# EAGLE library part LM4871 (library robotter_ic)
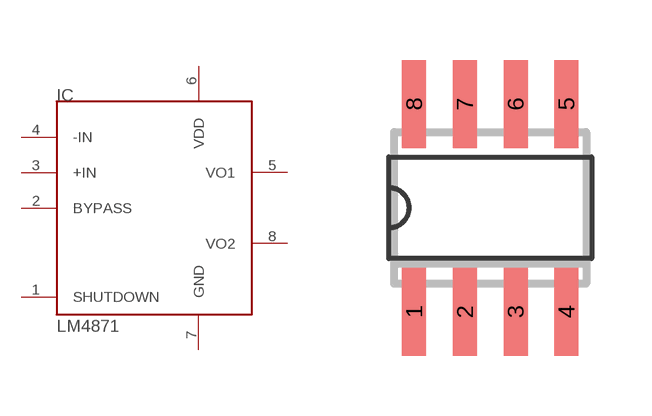
[diagram p12: symbol with the pads of SO8; footprint SO8]

Designator prefix IC

## LM4871M (MOUSER: 926-LM4871MX/NOPB; RS: 533-8271)  [SO8]
1  SHUTDOWN
2  BYPASS
3  +IN
4  -IN
5  VO1
6  VDD
7  GND
8  VO2

## Footprint SO8 (pad centres in mm)
8-Lead Small Outline IC (SO-8) Source: http://www.analog.com/UploadedFiles/Data_Sheets/703465986AD8611_2_0.pdf
smd 0.6 x 2.2: 1 -1.905,-2.6; 2 -0.635,-2.6; 3 0.635,-2.6; 4 1.905,-2.6; 5 1.905,2.6; 6 0.635,2.6; 7 -0.635,2.6; 8 -1.905,2.6